# EAGLE library part 662018231722 (library Wire-to-Board (rev18a))
WR-MPC3 3.00mm Male Dual Row SMT Angled Header SMT Fitting Nail Clip, 18 Pins=>Code : Con_WTB_MPC3_2_PCB_SMT_662018231722 <http://katalog.we-online.de/media/thumbs2/eican/thb_Con_WTB_MPC3_2_PCB_SMT_6620xx231722_pf2.jpg> Details see: http://katalog.we-online.de/en/em/MPC3_3_00_SMT_MALE_DUAL_ROW_ANGLED_HEADER_W_SMT_SOLDER_TAB_6620XX231722 Created 2014-06-06, Karrer Zheng 2014 (C) Würth Elektronik
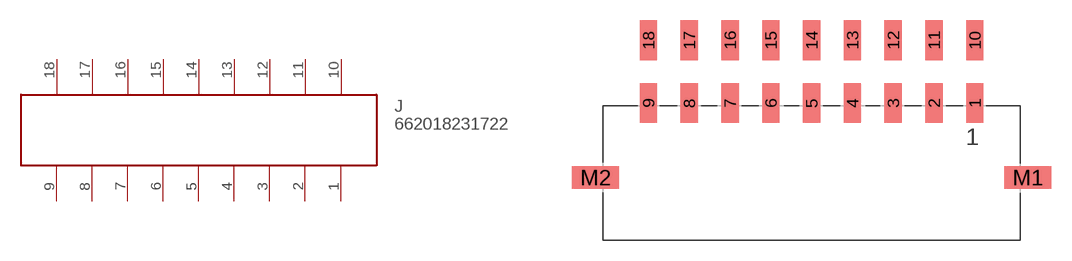
[diagram p384: symbol with the pads of 662018231722; footprint 662018231722]

Designator prefix J

## 662018231722  [662018231722]
1  1
2  2
3  3
4  4
5  5
6  6
7  7
8  8
9  9
10  10
11  11
12  12
13  13
14  14
15  15
16  16
17  17
18  18

## Footprint 662018231722 (pad centres in mm)
WR-MPC3 3.00mm Male Dual Row SMT Angled Header SMT Fitting Nail Clip, 18 Pins
smd 1.27 x 2.92: 1 12,5.48; 2 9,5.48; 3 6,5.48; 4 3,5.48; 5 0,5.48; 6 -3,5.48; 7 -6,5.48; 8 -9,5.48; 9 -12,5.48; 10 12,10.1; 11 9,10.1; 12 6,10.1; 13 3,10.1; 14 0,10.1; 15 -3,10.1; 16 -6,10.1; 17 -9,10.1; 18 -12,10.1
smd 3.43 x 1.65: M1 15.895,0; M2 -15.895,0